# Altium footprint library Resistor.PcbLib: 30 footprints (part 1 of 2)
Each footprint in its own frame and in the unit in brackets; x right, y up, seen from the top. Pads: shape width x height; smd on the part's side, far side on the other; paste and mask are expansions set on the pad; w line width, h text height; cw(c..) or ccw(c..) is an arc to the next point about the centre after c.
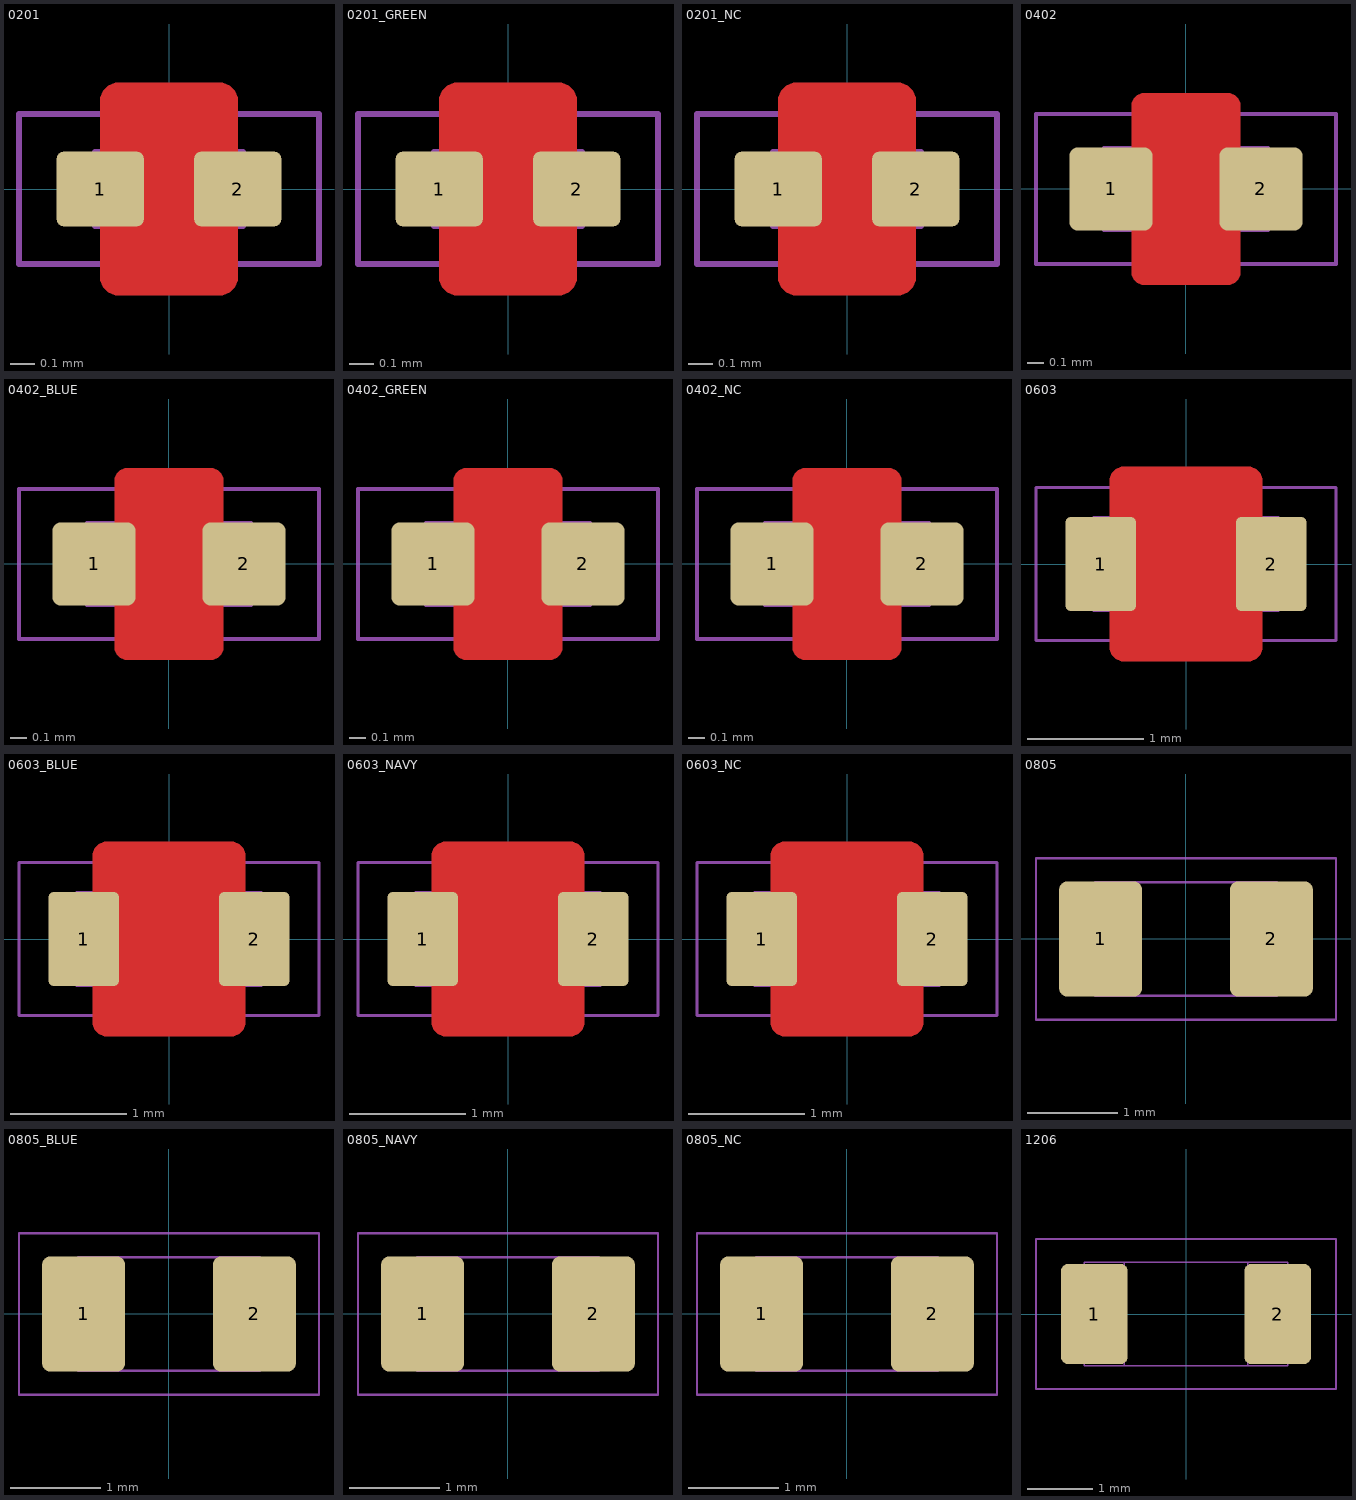
[diagram p0: the footprints below, top view; thin cyan lines are the x and y axes]

## 0201 [mil]
pads (2):
  rrect20% 14x12 smd mask+1.5: 1(-11,0) 2(11,0)
Top Layer:
  pour cut-out: -8,17 -8.6,17 -9.7,16.54 -10.54,15.7 -11,14.6 -11,14 -11,-14 -11,-14.6 -10.54,-15.7 -9.7,-16.54 -8.6,-17 -8,-17 8,-17 8.6,-17 9.7,-16.54 10.54,-15.7 11,-14.6 11,-14 11,14 11,14.6 10.54,15.7 9.7,16.54 8.6,17 8,17
Top Solder:
  rectangle: -6,-12.1 6,12.1
Top Component Outline:
  lines w1: -24,-12 -24,12 24,12 24,-12 -24,-12
Top 3D Body (Mech16):
  lines w1: -7.87,-5.91 -7.87,5.91 ; 7.87,-5.91 7.87,5.91 ; -11.81,-5.91 11.81,-5.91 11.81,5.91 -11.81,5.91 -11.81,-5.91
3D body: height 9.1, standoff 0, extent -12,-5 -8,5
3D body: height 8.8, standoff 0.2, extent -11.81,-5.91 11.81,5.91
3D body: height 9, standoff 8.8, extent -11.81,-5.91 11.81,5.91
3D body: height 9.1, standoff 0, extent 8,-5 12,5

## 0201_GREEN [mil]
pads (2):
  rrect20% 14x12 smd mask+1.5: 1(-11,0) 2(11,0)
Top Layer:
  pour cut-out: -8,17 -8.6,17 -9.7,16.54 -10.54,15.7 -11,14.6 -11,14 -11,-14 -11,-14.6 -10.54,-15.7 -9.7,-16.54 -8.6,-17 -8,-17 8,-17 8.6,-17 9.7,-16.54 10.54,-15.7 11,-14.6 11,-14 11,14 11,14.6 10.54,15.7 9.7,16.54 8.6,17 8,17
Top Solder:
  rectangle: -6,-12.1 6,12.1
Top Component Outline:
  lines w1: -24,-12 -24,12 24,12 24,-12 -24,-12
Top 3D Body (Mech16):
  lines w1: -7.87,-5.91 -7.87,5.91 ; 7.87,-5.91 7.87,5.91 ; -11.81,-5.91 11.81,-5.91 11.81,5.91 -11.81,5.91 -11.81,-5.91
3D body: height 9.1, standoff 0, extent -12,-5 -8,5
3D body: height 8.8, standoff 0.2, extent -11.81,-5.91 11.81,5.91
3D body: height 9, standoff 8.8, extent -11.81,-5.91 11.81,5.91
3D body: height 9.1, standoff 0, extent 8,-5 12,5

## 0201_NC [mil]
pads (2):
  rrect20% 14x12 smd mask+1.5: 1(-11,0) 2(11,0)
Top Layer:
  pour cut-out: -8,17 -8.6,17 -9.7,16.54 -10.54,15.7 -11,14.6 -11,14 -11,-14 -11,-14.6 -10.54,-15.7 -9.7,-16.54 -8.6,-17 -8,-17 8,-17 8.6,-17 9.7,-16.54 10.54,-15.7 11,-14.6 11,-14 11,14 11,14.6 10.54,15.7 9.7,16.54 8.6,17 8,17
Top Solder:
  rectangle: -6,-12.1 6,12.1
Top Component Outline:
  lines w1: -24,-12 24,-12 24,12 -24,12 -24,-12
Top 3D Body (Mech16):
  lines w1: -7.87,-5.91 -7.87,5.91 ; 7.87,-5.91 7.87,5.91 ; -11.81,-5.91 -11.81,5.91 11.81,5.91 11.81,-5.91 -11.81,-5.91
3D body: height 1, standoff 0.1, extent -11.81,-5.91 11.81,5.91

## 0402 [mil]
pads (2):
  rrect20% 20x20 smd mask+2: 1(-18,0) 2(18,0)
Top Layer:
  pour cut-out: 13,20 13,20.6 12.54,21.7 11.7,22.54 10.6,23 10,23 -10,23 -10.6,23 -11.7,22.54 -12.54,21.7 -13,20.6 -13,20 -13,-20 -13,-20.6 -12.54,-21.7 -11.7,-22.54 -10.6,-23 -10,-23 10,-23 10.6,-23 11.7,-22.54 12.54,-21.7 13,-20.6 13,-20
Top Solder:
  region: -8,18.1 -8,12 -17,12 -17,-12 -8,-12 -8,-18.1 8,-18.1 8,-12 17,-12 17,12 8,12 8,18.1
Top Component Outline:
  lines w1: -36,-18 36,-18 36,18 -36,18 -36,-18
Top 3D Body (Mech16):
  lines w1: -11.81,-9.84 -11.81,9.84 ; 11.81,-9.84 11.81,9.84 ; -19.68,-9.84 -19.68,9.84 19.68,9.84 19.68,-9.84 -19.68,-9.84
3D body: height 9.8, standoff 0.2, extent -19.68,-9.84 19.68,9.84
3D body: height 10, standoff 9.8, extent -19.68,-9.84 19.68,9.84
3D body: height 10.1, standoff 0, extent 12,-9 20,9
3D body: height 10.1, standoff 0, extent -20,-9 -12,9

## 0402_BLUE [mil]
pads (2):
  rrect20% 20x20 smd mask+2: 1(-18,0) 2(18,0)
Top Layer:
  pour cut-out: 13,20 13,20.6 12.54,21.7 11.7,22.54 10.6,23 10,23 -10,23 -10.6,23 -11.7,22.54 -12.54,21.7 -13,20.6 -13,20 -13,-20 -13,-20.6 -12.54,-21.7 -11.7,-22.54 -10.6,-23 -10,-23 10,-23 10.6,-23 11.7,-22.54 12.54,-21.7 13,-20.6 13,-20
Top Solder:
  region: -8,18.1 -8,12 -17,12 -17,-12 -8,-12 -8,-18.1 8,-18.1 8,-12 17,-12 17,12 8,12 8,18.1
Top Component Outline:
  lines w1: -36,-18 36,-18 36,18 -36,18 -36,-18
Top 3D Body (Mech16):
  lines w1: -11.81,-9.84 -11.81,9.84 ; 11.81,-9.84 11.81,9.84 ; -19.68,-9.84 -19.68,9.84 19.68,9.84 19.68,-9.84 -19.68,-9.84
3D body: height 9.8, standoff 0.2, extent -19.68,-9.84 19.68,9.84
3D body: height 10, standoff 9.8, extent -19.68,-9.84 19.68,9.84
3D body: height 10.1, standoff 0, extent 12,-9 20,9
3D body: height 10.1, standoff 0, extent -20,-9 -12,9

## 0402_GREEN [mil]
pads (2):
  rrect20% 20x20 smd mask+2: 1(-18,0) 2(18,0)
Top Layer:
  pour cut-out: 13,20 13,20.6 12.54,21.7 11.7,22.54 10.6,23 10,23 -10,23 -10.6,23 -11.7,22.54 -12.54,21.7 -13,20.6 -13,20 -13,-20 -13,-20.6 -12.54,-21.7 -11.7,-22.54 -10.6,-23 -10,-23 10,-23 10.6,-23 11.7,-22.54 12.54,-21.7 13,-20.6 13,-20
Top Solder:
  region: -8,18.1 -8,12 -17,12 -17,-12 -8,-12 -8,-18.1 8,-18.1 8,-12 17,-12 17,12 8,12 8,18.1
Top Component Outline:
  lines w1: -36,-18 36,-18 36,18 -36,18 -36,-18
Top 3D Body (Mech16):
  lines w1: -11.81,-9.84 -11.81,9.84 ; 11.81,-9.84 11.81,9.84 ; -19.68,-9.84 -19.68,9.84 19.68,9.84 19.68,-9.84 -19.68,-9.84
3D body: height 9.8, standoff 0.2, extent -19.68,-9.84 19.68,9.84
3D body: height 10, standoff 9.8, extent -19.68,-9.84 19.68,9.84
3D body: height 10.1, standoff 0, extent 12,-9 20,9
3D body: height 10.1, standoff 0, extent -20,-9 -12,9

## 0402_NC [mil]
pads (2):
  rrect20% 20x20 smd mask+2: 1(-18,0) 2(18,0)
Top Layer:
  pour cut-out: 13,20 13,20.6 12.54,21.7 11.7,22.54 10.6,23 10,23 -10,23 -10.6,23 -11.7,22.54 -12.54,21.7 -13,20.6 -13,20 -13,-20 -13,-20.6 -12.54,-21.7 -11.7,-22.54 -10.6,-23 -10,-23 10,-23 10.6,-23 11.7,-22.54 12.54,-21.7 13,-20.6 13,-20
Top Solder:
  region: -8,18.1 -8,12 -17,12 -17,-12 -8,-12 -8,-18.1 8,-18.1 8,-12 17,-12 17,12 8,12 8,18.1
Top Component Outline:
  lines w1: -36,-18 -36,18 36,18 36,-18 -36,-18
Top 3D Body (Mech16):
  lines w1: -9.84,-9.84 -9.84,9.84 ; 9.84,-9.84 9.84,9.84 ; -19.68,-9.84 19.68,-9.84 19.68,9.84 -19.68,9.84 -19.68,-9.84
3D body: height 1, standoff 0, extent -19.68,-9.84 19.68,9.84

## 0603 [mil]
pads (2):
  rrect15% 24x32 smd paste-1 mask+2: 1(-29,0) 2(29,0)
Top Layer:
  pour cut-out: -21,33 -21.99,33 -23.83,32.24 -25.24,30.83 -26,28.99 -26,28 -26,-28 -26,-28.99 -25.24,-30.83 -23.83,-32.24 -21.99,-33 -21,-33 21,-33 22,-33 23.83,-32.24 25.24,-30.83 26,-28.99 26,-28 26,28 26,28.99 25.24,30.83 23.83,32.24 22,33 21,33
Top Solder:
  rectangle: -20,-27 20,27
Top Component Outline:
  lines w1: -51,-26 51,-26 51,26 -51,26 -51,-26
Top 3D Body (Mech16):
  lines w1: -17.72,-15.75 -17.72,15.75 ; 17.72,-15.75 17.72,15.75 ; -31.5,-15.75 -31.5,15.75 31.5,15.75 31.5,-15.75 -31.5,-15.75
3D body: height 19, standoff 0, extent 18,-15 32,15
3D body: height 17, standoff 0.2, extent -31.5,-15.75 31.5,15.75
3D body: height 18, standoff 17, extent -31.5,-15.75 31.5,15.75
3D body: height 19, standoff 0, extent -32,-15 -18,15

## 0603_BLUE [mil]
pads (2):
  rrect15% 24x32 smd paste-1 mask+2: 1(-29,0) 2(29,0)
Top Layer:
  pour cut-out: -21,33 -21.99,33 -23.83,32.24 -25.24,30.83 -26,28.99 -26,28 -26,-28 -26,-28.99 -25.24,-30.83 -23.83,-32.24 -21.99,-33 -21,-33 21,-33 22,-33 23.83,-32.24 25.24,-30.83 26,-28.99 26,-28 26,28 26,28.99 25.24,30.83 23.83,32.24 22,33 21,33
Top Solder:
  rectangle: -20,-27 20,27
Top Component Outline:
  lines w1: -51,-26 51,-26 51,26 -51,26 -51,-26
Top 3D Body (Mech16):
  lines w1: -17.72,-15.75 -17.72,15.75 ; 17.72,-15.75 17.72,15.75 ; -31.5,-15.75 -31.5,15.75 31.5,15.75 31.5,-15.75 -31.5,-15.75
3D body: height 19, standoff 0, extent 18,-15 32,15
3D body: height 17, standoff 0.2, extent -31.5,-15.75 31.5,15.75
3D body: height 18, standoff 17, extent -31.5,-15.75 31.5,15.75
3D body: height 19, standoff 0, extent -32,-15 -18,15

## 0603_NAVY [mil]
pads (2):
  rrect15% 24x32 smd paste-1 mask+2: 1(-29,0) 2(29,0)
Top Layer:
  pour cut-out: -21,33 -21.99,33 -23.83,32.24 -25.24,30.83 -26,28.99 -26,28 -26,-28 -26,-28.99 -25.24,-30.83 -23.83,-32.24 -21.99,-33 -21,-33 21,-33 22,-33 23.83,-32.24 25.24,-30.83 26,-28.99 26,-28 26,28 26,28.99 25.24,30.83 23.83,32.24 22,33 21,33
Top Solder:
  rectangle: -20,-27 20,27
Top Component Outline:
  lines w1: -51,-26 51,-26 51,26 -51,26 -51,-26
Top 3D Body (Mech16):
  lines w1: -17.72,-15.75 -17.72,15.75 ; 17.72,-15.75 17.72,15.75 ; -31.5,-15.75 -31.5,15.75 31.5,15.75 31.5,-15.75 -31.5,-15.75
3D body: height 19, standoff 0, extent 18,-15 32,15
3D body: height 17, standoff 0.2, extent -31.5,-15.75 31.5,15.75
3D body: height 18, standoff 17, extent -31.5,-15.75 31.5,15.75
3D body: height 19, standoff 0, extent -32,-15 -18,15

## 0603_NC [mil]
pads (2):
  rrect15% 24x32 smd paste-1 mask+2: 1(-29,0) 2(29,0)
Top Layer:
  pour cut-out: -21,33 -21.99,33 -23.83,32.24 -25.24,30.83 -26,28.99 -26,28 -26,-28 -26,-28.99 -25.24,-30.83 -23.83,-32.24 -21.99,-33 -21,-33 21,-33 22,-33 23.83,-32.24 25.24,-30.83 26,-28.99 26,-28 26,28 26,28.99 25.24,30.83 23.83,32.24 22,33 21,33
Top Solder:
  rectangle: -20,-27 20,27
Top Component Outline:
  lines w1: -51,-26 -51,26 51,26 51,-26 -51,-26
Top 3D Body (Mech16):
  lines w1: -17.72,-15.75 -17.72,15.75 ; 17.72,-15.75 17.72,15.75 ; -31.5,-15.75 31.5,-15.75 31.5,15.75 -31.5,15.75 -31.5,-15.75
3D body: height 1, standoff 0, extent -31.5,-15.75 31.5,15.75

## 0805 [mil]
pads (2):
  rrect20% 36x50 smd paste-3 mask+2: 1(-37,0) 2(37,0)
Top Component Outline:
  lines w1: -65,-35 -65,35 65,35 65,-35 -65,-35
Top 3D Body (Mech16):
  lines w1: -23.62,-24.61 -23.62,24.61 ; 23.62,-24.61 23.62,24.61 ; -39.37,-24.61 -39.37,24.61 39.37,24.61 39.37,-24.61 -39.37,-24.61
3D body: height 21, standoff 0, extent 23,-24 39,24
3D body: height 19, standoff 1, extent -38.37,-24.61 38.37,24.61
3D body: height 20, standoff 19, extent -38.37,-24.61 38.37,24.61
3D body: height 21, standoff 0, extent -39,-24 -23,24

## 0805_BLUE [mil]
pads (2):
  rrect20% 36x50 smd paste-3 mask+2: 1(-37,0) 2(37,0)
Top Component Outline:
  lines w1: -65,-35 -65,35 65,35 65,-35 -65,-35
Top 3D Body (Mech16):
  lines w1: -23.62,-24.61 -23.62,24.61 ; 23.62,-24.61 23.62,24.61 ; -39.37,-24.61 -39.37,24.61 39.37,24.61 39.37,-24.61 -39.37,-24.61
3D body: height 19, standoff 1, extent -38.37,-24.61 38.37,24.61
3D body: height 20, standoff 19, extent -38.37,-24.61 38.37,24.61
3D body: height 21, standoff 0, extent 23,-24 39,24
3D body: height 21, standoff 0, extent -39,-24 -23,24

## 0805_NAVY [mil]
pads (2):
  rrect20% 36x50 smd paste-3 mask+2: 1(-37,0) 2(37,0)
Top Component Outline:
  lines w1: -65,-35 65,-35 65,35 -65,35 -65,-35
Top 3D Body (Mech16):
  lines w1: -23.62,-24.61 -23.62,24.61 ; 23.62,-24.61 23.62,24.61 ; -39.37,-24.61 39.37,-24.61 39.37,24.61 -39.37,24.61 -39.37,-24.61
3D body: height 21, standoff 0, extent -39,-24 -23,24
3D body: height 20, standoff 19, extent -38.37,-24.61 38.37,24.61
3D body: height 19, standoff 1, extent -38.37,-24.61 38.37,24.61
3D body: height 21, standoff 0, extent 23,-24 39,24

## 0805_NC [mil]
pads (2):
  rrect20% 36x50 smd paste-3 mask+2: 1(-37,0) 2(37,0)
Top Component Outline:
  lines w1: -65,-35 -65,35 65,35 65,-35 -65,-35
Top 3D Body (Mech16):
  lines w1: -23.62,-24.61 -23.62,24.61 ; 23.62,-24.61 23.62,24.61 ; -39.37,-24.61 -39.37,24.61 39.37,24.61 39.37,-24.61 -39.37,-24.61
3D body: height 1, standoff 0, extent -39.37,-24.61 39.37,24.61

## 1206 [mil]
pads (2):
  rrect20% 40x60 smd mask+2: 1(-55,0) 2(55,0)
Top Component Outline:
  lines w1: -90,-45 -90,45 90,45 90,-45 -90,-45
Top 3D Body (Mech16):
  lines w1: -37,-31 -37,31 ; 37,-31 37,31 ; -61,-31 -61,31 61,31 61,-31 -61,-31
3D body: height 19, standoff 1, extent -60,-31 60,31
3D body: height 20, standoff 19, extent -60,-31 60,31
3D body: height 21, standoff 0, extent -61,-30 -37,30
3D body: height 21, standoff 0, extent 37,-30 61,30